# Altium schematic symbol library crystal_oscillators_rtc.SchLib: 4 symbols
Pins are listed as number, name and electrical type; pins without a type are passive.

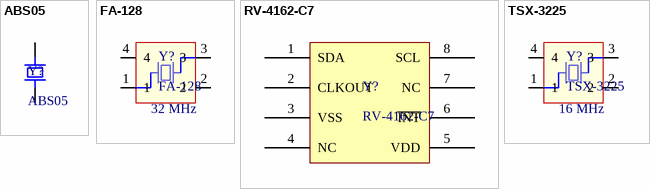
[diagram p0: symbols ABS05 to TSX-3225]

## ABS05
designator Y?
32768 Hz SMD Low profile crystal; Supplier 1: Digi-Key; Supplier Part Number 1: 535-11899-1-ND
footprint ABS05 (ABS05 Crystal)
pins: 1, 2

## FA-128
designator Y?  frequency: 32 MHz
MHz Range Crystal Unit; Load capatance: 10 pF; ESR: 60; stability: 20 ppm; Supplier 1: Digi-Key; Supplier Part Number 1: SER3800CT-ND
footprint FA-128 (Seiko Epson FA-128 Crystal)
pins: 1, 2, 3, 4

## RV-4162-C7
designator Y?
Real Time Clock Module with I2C Bus; Supplier 1: Newark; Supplier Part Number 1: 09X0517
footprint RV4162 (RTC)
pins: 1 SDA, 2 CLKOUT, 3 VSS, 4 NC, 5 VDD, 6 ~{INT}, 7 NC, 8 SCL

## TSX-3225
designator Y?  frequency: 16 MHz
MHz Range Crystal Unit; Load capatance: 9 pF; ESR: 60; stability: 10 ppm; Supplier 1: Digi-Key; Supplier Part Number 1: SER3628CT-ND
footprint TSX-3225 (Seiko Epson TSX-3225 Crystal)
pins: 1, 2, 3, 4